# EAGLE library part 569-010*-* (library radish)
LED Block for the wongle
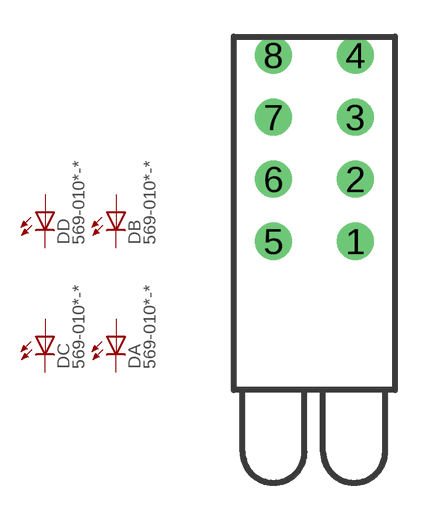
[diagram p7: symbol with the pads of 569-010*-*; footprint 569-010*-*]

Designator prefix D; gates A=LED B=LED C=LED D=LED

## 569-010-  [569-010*-*]
1  A:C  pas
2  A:A  pas
3  B:C  pas
4  B:A  pas
5  C:C  pas
6  C:A  pas
7  D:C  pas
8  D:A  pas

## Footprint 569-010*-* (pad centres in mm)
drill 1.016 round: 1 3.353,0; 2 3.353,2.54; 3 3.353,5.08; 4 3.353,7.62; 5 0,0; 6 0,2.54; 7 0,5.08; 8 0,7.62